# EAGLE library part MAX8808XETA+T (library Battery Chargers)
Charger IC Lithium-Ion 8-TDFN-EP (2x2) Manufacturer's datasheet <https://datasheets.maximintegrated.com/en/ds/MAX8808X-MAX8808Z.pdf>
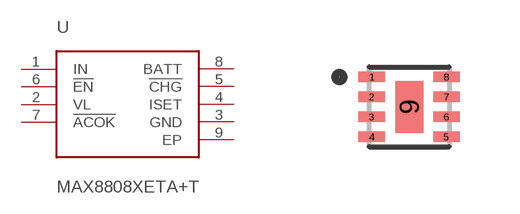
[diagram p23: symbol with the pads of MAX8808XETA+T; footprint MAX8808XETA+T]

Designator prefix U

## MAX8808XETA+T (CREATED_BY: PCBLayout.com; DIGIKEY_PART_NUMBER: MAX8808XETA+TCT-ND; MANUFACTURER: Maxim Integrated; MPN: MAX8808XETA+T; PACKAGE: 8-TDFN-EP)  [MAX8808XETA+T]
1  IN  in
2  VL  in
3  GND  pwr
4  ISET  out
5  !CHG  out
6  !EN  in
7  !ACOK  in
8  BATT  pwr
9  EP  pwr

## Footprint MAX8808XETA+T (pad centres in mm)
smd 0.66 x 0.27: 1 -0.935,0.75; 2 -0.935,0.25; 3 -0.935,-0.25; 4 -0.935,-0.75; 5 0.935,-0.75; 6 0.935,-0.25; 7 0.935,0.25; 8 0.935,0.75
smd 0.7 x 1.3: 9 0,0